# Altium footprint library Buzzer.PcbLib: 4 footprints
Each footprint in its own frame and in the unit in brackets; x right, y up, seen from the top. Pads: shape width x height; smd on the part's side, far side on the other; paste and mask are expansions set on the pad; w line width, h text height; cw(c..) or ccw(c..) is an arc to the next point about the centre after c.
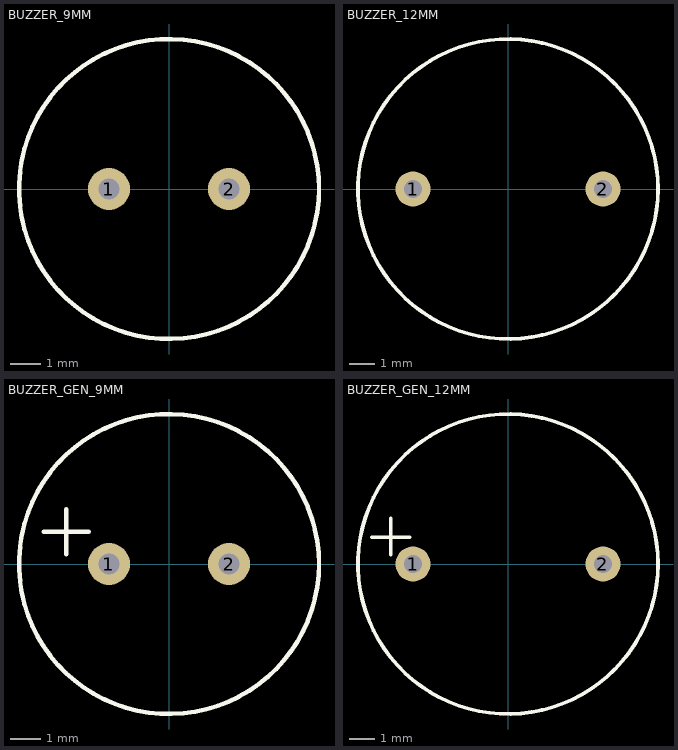
[diagram p0: the footprints below, top view; thin cyan lines are the x and y axes]

## BUZZER_9MM [mm] "Излучатель звука"
pads (2):
  round 1.4 hole 0.7: 1(-2,0) 2(2,0)
Top Overlay:
  circle w0.15: c0,0 r5
3D body "User Library-Buzzer_9mm.STEP": height 6.9, standoff -4.1, extent -4.6,-4.65 4.5,4.45

## BUZZER_12MM [mm] "Излучатель звука"
pads (2):
  round 1.4 hole 0.7: 1(-3.8,0) 2(3.8,0)
Top Overlay:
  circle w0.15: c0,0 r6
3D body "User Library-WST-1203UX.step": height 10.95, standoff -3.2, extent -9.504,-6.1 5.95,5.9

## BUZZER_GEN_9MM [mm] "Излучатель звука"
pads (2):
  round 1.4 hole 0.7: 1(-2,0) 2(2,0)
Top Overlay:
  circle w0.15: c0,0 r5
  lines w0.15: -4.175,1.075 -2.675,1.075 ; -3.425,0.325 -3.425,0.575 -3.425,1.825
3D body "User Library-Buzzer_9mm.STEP": height 6.9, standoff -4.1, extent -4.6,-4.65 4.5,4.45

## BUZZER_GEN_12MM [mm] "Излучатель звука"
pads (2):
  round 1.4 hole 0.7: 1(-3.8,0) 2(3.8,0)
Top Overlay:
  circle w0.15: c0,0 r6
  lines w0.15: -5.445,1.075 -3.945,1.075 ; -4.695,0.381 -4.695,1.825
3D body "User Library-WST-1203UX.step": height 10.95, standoff -3.2, extent -9.504,-6.1 5.95,5.9